# EAGLE library part MIC2287C (library LITTLEBITS140915)
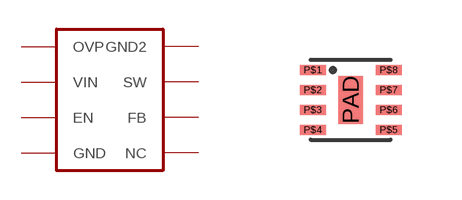
[diagram p11: symbol with the pads of MLF-8PIN; footprint MLF-8PIN]

Designator prefix -

## MIC2287C  [MLF-8PIN]
P$1  OVP
P$2  VIN  pwr
P$3  EN
P$4  GND  pwr
P$5  NC  nc
P$6  FB
P$7  SW
P$8  GND2  pwr

## Footprint MLF-8PIN (pad centres in mm)
smd 0.65 x 0.25: P$1 0.05,1.75; P$2 0.05,1.25; P$3 0.05,0.75; P$4 0.05,0.25; P$5 1.95,0.25; P$6 1.95,0.75; P$7 1.95,1.25; P$8 1.95,1.75
smd 0.6 x 1.2: PAD 1,1